# EAGLE library part ADV7533BCBZ-RL (library ADV7533BCBZ-RL)
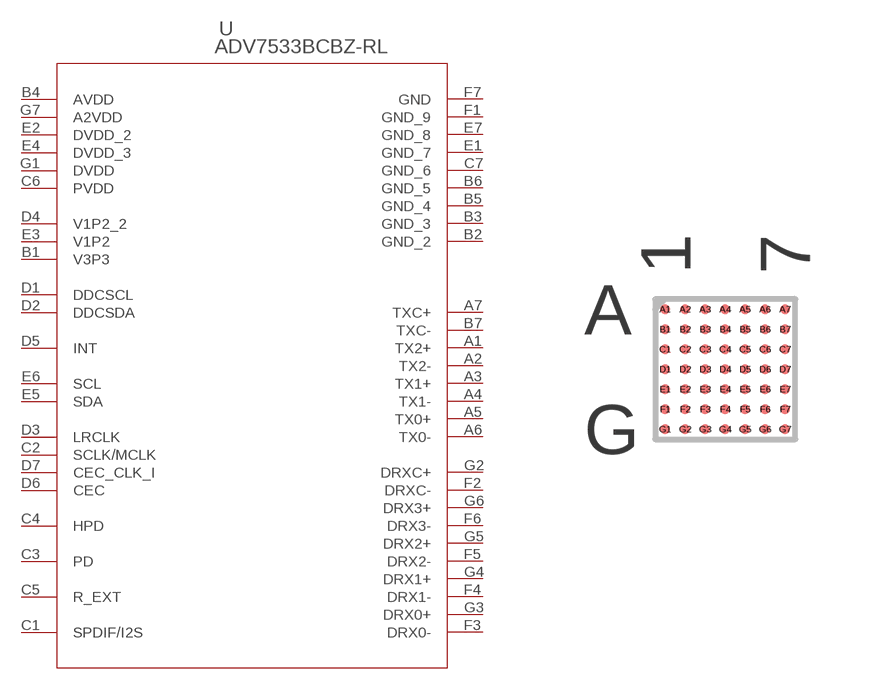
[diagram p0: symbol with the pads of CB_49_1; footprint CB_49_1]

Designator prefix U

## ADV7533BCBZ-RL  [CB_49_1]
A1  TX2+  pas
A2  TX2-  pas
A3  TX1+  pas
A4  TX1-  pas
A5  TX0+  pas
A6  TX0-  pas
A7  TXC+  pas
B1  V3P3  pas
B2  GND_2  pas
B3  GND_3  pas
B4  AVDD  pas
B5  GND_4  pas
B6  GND_5  pas
B7  TXC-  pas
C1  SPDIF/I2S  pas
C2  SCLK/MCLK  pas
C3  PD  pas
C4  HPD  pas
C5  R_EXT  pas
C6  PVDD  pas
C7  GND_6  pas
D1  DDCSCL  pas
D2  DDCSDA  pas
D3  LRCLK  pas
D4  V1P2_2  pas
D5  INT  pas
D6  CEC  pas
D7  CEC_CLK_I  pas
E1  GND_7  pas
E2  DVDD_2  pas
E3  V1P2  pas
E4  DVDD_3  pas
E5  SDA  pas
E6  SCL  pas
E7  GND_8  pas
F1  GND_9  pas
F2  DRXC-  pas
F3  DRX0-  pas
F4  DRX1-  pas
F5  DRX2-  pas
F6  DRX3-  pas
F7  GND  pas
G1  DVDD  pas
G2  DRXC+  pas
G3  DRX0+  pas
G4  DRX1+  pas
G5  DRX2+  pas
G6  DRX3+  pas
G7  A2VDD  pas

## Footprint CB_49_1 (pad centres in mm)
smd 0.25 x 0.25: A1 -1.5,1.5; A2 -1,1.5; A3 -0.5,1.5; A4 0,1.5; A5 0.5,1.5; A6 1,1.5; A7 1.5,1.5; B1 -1.5,1; B2 -1,1; B3 -0.5,1; B4 0,1; B5 0.5,1; B6 1,1; B7 1.5,1; C1 -1.5,0.5; C2 -1,0.5; C3 -0.5,0.5; C4 0,0.5; C5 0.5,0.5; C6 1,0.5; C7 1.5,0.5; D1 -1.5,0; D2 -1,0; D3 -0.5,0; D4 0,0; D5 0.5,0; D6 1,0; D7 1.5,0; E1 -1.5,-0.5; E2 -1,-0.5; E3 -0.5,-0.5; E4 0,-0.5; E5 0.5,-0.5; E6 1,-0.5; E7 1.5,-0.5; F1 -1.5,-1; F2 -1,-1; F3 -0.5,-1; F4 0,-1; F5 0.5,-1; F6 1,-1; F7 1.5,-1; G1 -1.5,-1.5; G2 -1,-1.5; G3 -0.5,-1.5; G4 0,-1.5; G5 0.5,-1.5; G6 1,-1.5; G7 1.5,-1.5